# EAGLE library part MCP2558FD (library Microchip)
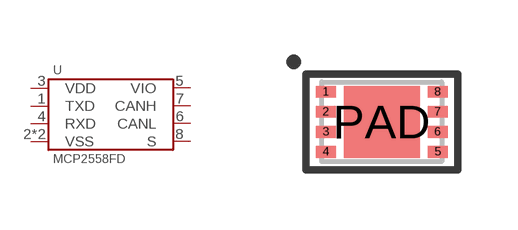
[diagram p21: symbol with the pads of TDFN-8-2X3; footprint TDFN-8-2X3]

Designator prefix U

## MCP2558FDT-H/MNY  [TDFN-8-2X3]
1  TXD
2  VSS
3  VDD
4  RXD
5  VIO
6  CANL
7  CANH
8  S
PAD  VSS

## Footprint TDFN-8-2X3 (pad centres in mm)
smd 0.5 x 0.3: 1 -1.4,0.75; 2 -1.4,0.25; 3 -1.4,-0.25; 4 -1.4,-0.75; 5 1.4,-0.75; 6 1.4,-0.25; 7 1.4,0.25; 8 1.4,0.75
smd 1.9 x 1.8: PAD 0,0